# Altium schematic symbol library C1005X7S1A684K050BC.SchLib: 1 symbol
Pins are listed as number, name and electrical type; pins without a type are passive.

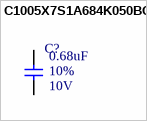
[diagram p0: symbol C1005X7S1A684K050BC]

## C1005X7S1A684K050BC
designator C?  Rated Voltage: 10V  Tolerance: 10%  Capacitence: 0.68uF  (hidden comment: C1005X7S1A684K050BC)
CAP CER 0.68UF 10V X7S 0402; MFR: TDK Corporation; Temperature Coefficient: X7R; PN: C1005X7S1A684K050BC; ComponentLink1Description: Datasheet; ComponentLink1URL: www.google.com; Package: 0402; Footprint: C0402; Supplier 1: Mouser; Supplier Part Number 1: 810-C1005X7S1A684K0C
footprint C0402 (A generic C0402 footprint)
pins: 1, 2